# Altium footprint library WE-TDC HV.PcbLib: 2 footprints
Each footprint in its own frame and in the unit in brackets; x right, y up, seen from the top. Pads: shape width x height; smd on the part's side, far side on the other; paste and mask are expansions set on the pad; w line width, h text height; cw(c..) or ccw(c..) is an arc to the next point about the centre after c.
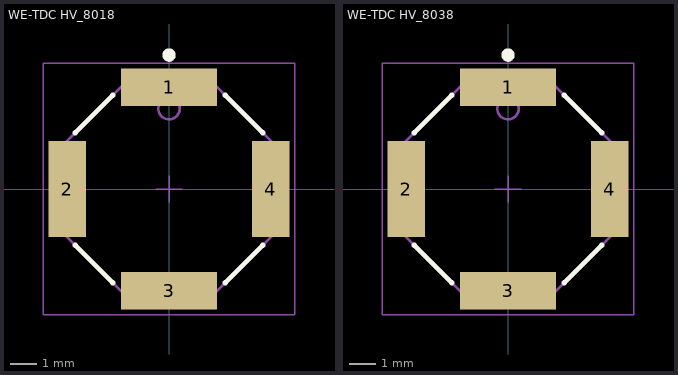
[diagram p0: the footprints below, top view; thin cyan lines are the x and y axes]

## WE-TDC HV_8018 [mm] "SMD Coupled Inductor, 4-leads, body 8x8mm"
height 2.1
pads (4):
  rect 3.6x1.4 smd: 1(0,3.8) 3(0,-3.8)
  rect 1.4x3.6 smd: 2(-3.8,0) 4(3.8,0)
Top Overlay:
  circle w0.25: c0,5 r0.125
  lines w0.2: -3.5,-2.1 -2.1,-3.5 ; -3.5,2.1 -2.1,3.5 ; 2.1,-3.5 3.5,-2.1 ; 2.1,3.5 3.5,2.1
Top Designator:
  text ".Designator" at -7.498,-0.5 h1.5
Top Component Outline:
  circle w0.1: c0,3 r0.4
  lines w0.1: -4,-1.6 -4,1.6 -1.6,4 1.6,4 4,1.6 4,-1.6 1.6,-4 -1.6,-4 -4,-1.6
Top 3D Body:
  circle w0.1: c0,3 r0.4
  lines w0.1: -4,-1.6 -4,1.6 -1.6,4 1.6,4 4,1.6 4,-1.6 1.6,-4 -1.6,-4 -4,-1.6
Top Courtyard:
  lines w0.05: -0.5,0 0.5,0 ; 0,-0.5 0,0.5 ; -4.7,-4.7 -4.7,4.7 4.7,4.7 4.7,-4.7 -4.7,-4.7
3D body "IndTDCHV_8018.stp": height 1.8, standoff 0, extent -4,-4 4,4

## WE-TDC HV_8038 [mm] "SMD Coupled Inductor, 4-leads, body 8x8mm"
height 4.1
pads (4):
  rect 3.6x1.4 smd: 1(0,3.8) 3(0,-3.8)
  rect 1.4x3.6 smd: 2(-3.8,0) 4(3.8,0)
Top Overlay:
  circle w0.25: c0,5 r0.125
  lines w0.2: -3.5,-2.1 -2.1,-3.5 ; -3.5,2.1 -2.1,3.5 ; 2.1,-3.5 3.5,-2.1 ; 2.1,3.5 3.5,2.1
Top Designator:
  text ".Designator" at -7.498,-0.5 h1.5
Top Component Outline:
  circle w0.1: c0,3 r0.4
  lines w0.1: -4,-1.6 -1.6,-4 1.6,-4 4,-1.6 4,1.6 1.6,4 -1.6,4 -4,1.6 -4,-1.6
Top 3D Body:
  circle w0.1: c0,3 r0.4
  lines w0.1: -4,-1.6 -1.6,-4 1.6,-4 4,-1.6 4,1.6 1.6,4 -1.6,4 -4,1.6 -4,-1.6
Top Courtyard:
  lines w0.05: -0.5,0 0.5,0 ; 0,-0.5 0,0.5 ; -4.7,-4.7 4.7,-4.7 4.7,4.7 -4.7,4.7 -4.7,-4.7
3D body "IndTDCHV_8038.stp": height 3.8, standoff 0, extent -4,-4 4,4